# Altium schematic symbol library LM2596 Mod.SchLib: 1 symbol
Pins are listed as number, name and electrical type; pins without a type are passive.

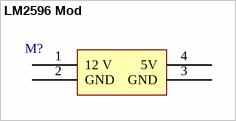
[diagram p0: symbol LM2596 Mod]

## LM2596 Mod
designator M?, comment LM2596  (value not drawn)
footprint LM2596 Mod
pins: 1 12 V (power), 2 GND (power), 3 GND (power), 4 5V (power)